# Altium footprint library plcc-2.PcbLib: 1 footprints
Each footprint in its own frame and in the unit in brackets; x right, y up, seen from the top. Pads: shape width x height; smd on the part's side, far side on the other; paste and mask are expansions set on the pad; w line width, h text height; cw(c..) or ccw(c..) is an arc to the next point about the centre after c.
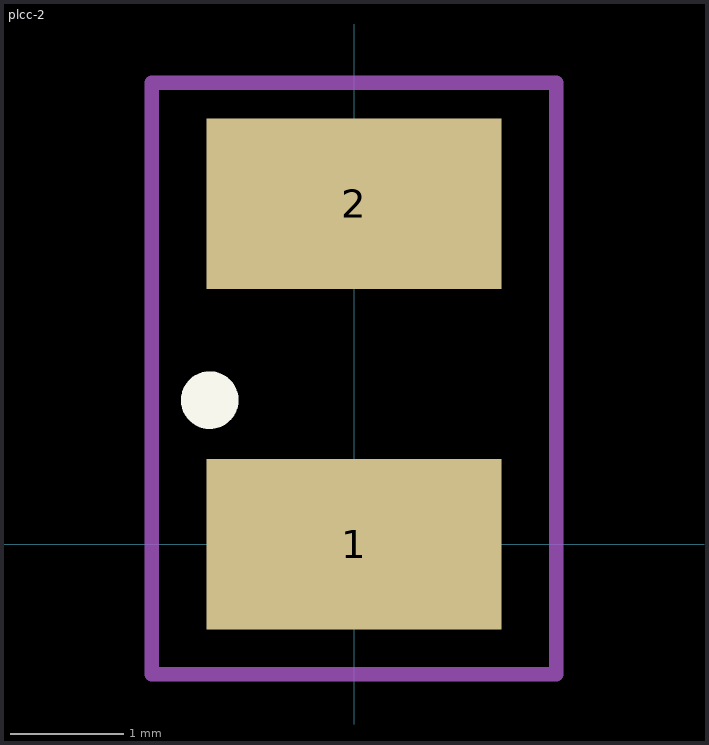
[diagram p0: the footprint, top view; thin cyan lines are the x and y axes]

## plcc-2 [mm]
pads (2):
  rect 2.6x1.5 smd: 1(0,0) 2(0,3)
Top Overlay:
  circle w0.254: c-1.27,1.27 r0.127
Mechanical 1:
  lines w0.127: -1.778,-1.143 -1.778,4.064 1.778,4.064 1.778,-1.143 -1.778,-1.143